# EAGLE library part WE-POEH_EPQ13 (library wurth_elektronik_passive_rev16d)
WE-PoEH Power over Ethernet High Power Transformer Characteristics DFlyback or Forward Transformer Input voltage: 9 V or 33 V to 57 V Switching frequencies: 200-400 kHz Operating temperature: -40°C up to +125°C Insulation test voltage: 1.5 kVAC Different output voltages available Optimized core and bobbin design for 30% more power handling Standard footprint to EP13 Applications PoE and PoE+ powered devices Telecom Industrial applications WLAN acess point Safety cameras <http://katalog.we-online.de/media/images/v2/Family_WE-PoEH.jpg> Details see: http://katalog.we-online.de/en/pbs/WE-POEH <http://katalog.we-online.de/en/pbs/WE-POEH?> 20146 (C) Wurth Elektronik
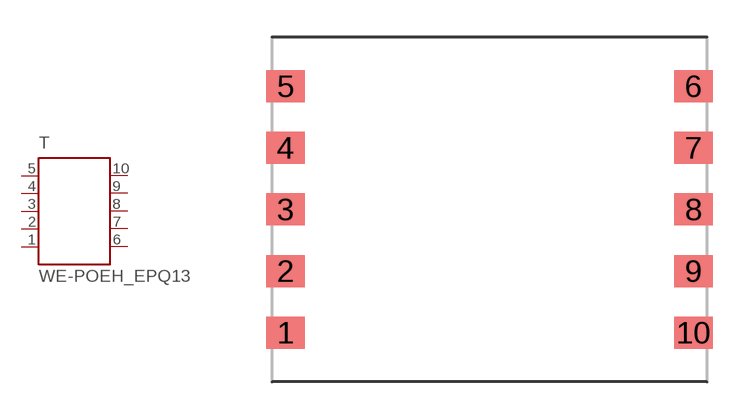
[diagram p212: symbol with the pads of WE_EPQ13_SMD_10PIN; footprint WE_EPQ13_SMD_10PIN]

Designator prefix T

## WE-POEH_EPQ13_EPQ13  [WE_EPQ13_SMD_10PIN]
1  5  pas
2  4  pas
3  3  pas
4  2  pas
5  1  pas
6  6  pas
7  7  pas
8  8  pas
9  9  pas
10  10  pas

## Footprint WE_EPQ13_SMD_10PIN (pad centres in mm)
smd 1.55 x 1.3: 1 -8.275,-5; 2 -8.275,-2.5; 3 -8.275,0; 4 -8.275,2.5; 5 -8.275,5; 6 8.275,5; 7 8.275,2.5; 8 8.275,0; 9 8.275,-2.5; 10 8.275,-5